# EAGLE library part AT25DF041A (library Atmel)
4-megabit SPI Serial Flash Memory
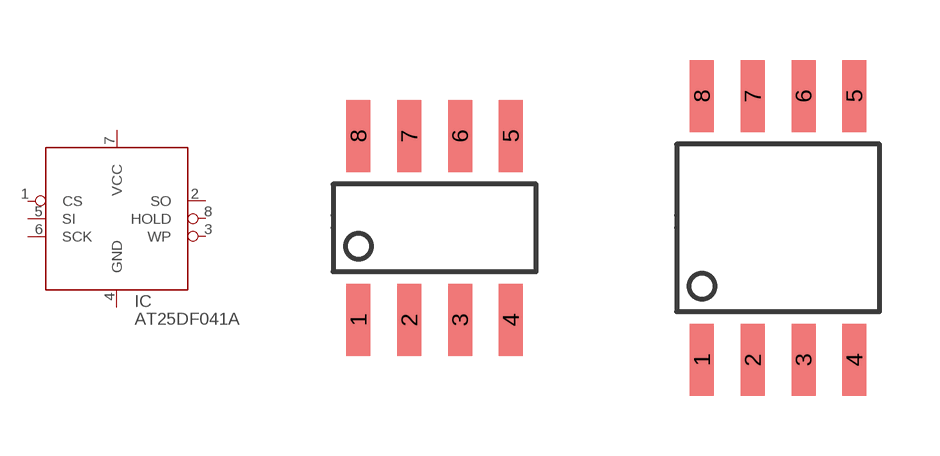
[diagram p10: symbol with the pads of SOIC8-8S1; footprints SOIC8-8S1, SOIC8-8S2]

Designator prefix IC

## AT25DF041A-SSH  [SOIC8-8S1]
1  CS
2  SO
3  WP
4  GND
5  SI
6  SCK
7  VCC
8  HOLD

## AT25DF041A-SH  [SOIC8-8S2]
Pads as for SOIC8-8S1

## Footprint SOIC8-8S1 (pad centres in mm)
8-Lead JEDEC SOIC, Atmel code 8S1
smd 0.6 x 1.8: 1 -1.905,-2.302; 2 -0.635,-2.302; 3 0.635,-2.302; 4 1.905,-2.302; 5 1.905,2.302; 6 0.635,2.302; 7 -0.635,2.302; 8 -1.905,2.302

## Footprint SOIC8-8S2 (pad centres in mm)
Atmel 8S2, 8-lead, 0.209", Plastic SOIC
smd 0.6 x 1.8: 1 -1.905,-3.302; 2 -0.635,-3.302; 3 0.635,-3.302; 4 1.905,-3.302; 5 1.905,3.302; 6 0.635,3.302; 7 -0.635,3.302; 8 -1.905,3.302